# Altium schematic symbol library Amplifier.SchLib: 1 symbol
Pins are listed as number, name and electrical type; pins without a type are passive.

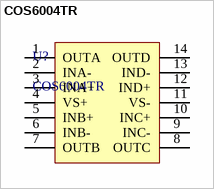
[diagram p0: symbol COS6004TR]

## COS6004TR
designator U?
4 1.5MHz 5mV TSSOP-14  Operational Amplifier ROHS; Package: TSSOP-14
footprint COS6004TR (TSOP, 14-Leads, Body 4.96x4.40mm, Pitch 0.65mm, IPC Medium Density)
pins: 1 OUTA, 2 INA-, 3 INA+, 4 VS+, 5 INB+, 6 INB-, 7 OUTB, 8 OUTC, 9 INC-, 10 INC+, 11 VS-, 12 IND+, 13 IND-, 14 OUTD